# Altium footprint library bms.PcbLib: 20 footprints (part 2 of 2)
Each footprint in its own frame and in the unit in brackets; x right, y up, seen from the top. Pads: shape width x height; smd on the part's side, far side on the other; paste and mask are expansions set on the pad; w line width, h text height; cw(c..) or ccw(c..) is an arc to the next point about the centre after c.
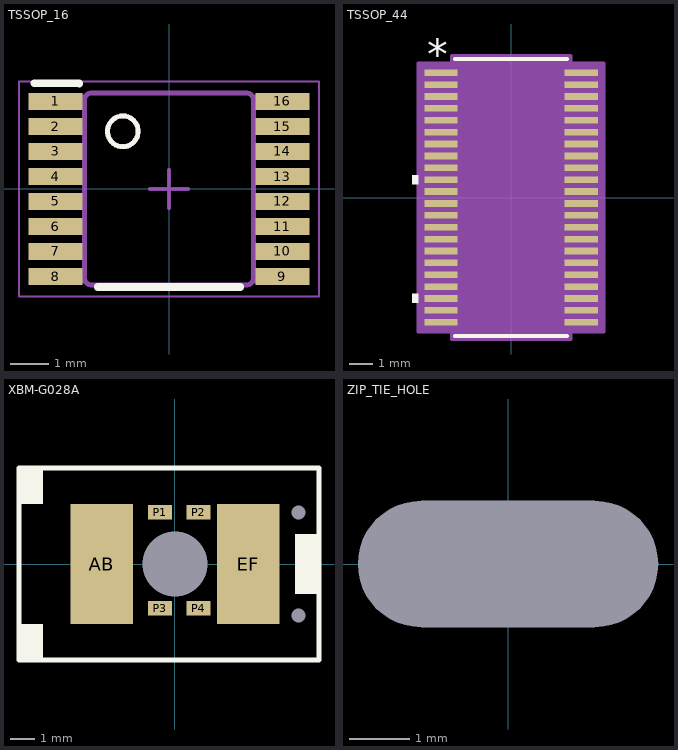
[diagram p1: the footprints below, top view; thin cyan lines are the x and y axes]

## TSSOP_16 [mm]
pads (16):
  rect 1.4x0.45 smd mask+0.051: 1(-2.95,2.275) 2(-2.95,1.625) 3(-2.95,0.975) 4(-2.95,0.325) 5(-2.95,-0.325) 6(-2.95,-0.975) 7(-2.95,-1.625) 8(-2.95,-2.275) 9(2.95,-2.275) 10(2.95,-1.625) 11(2.95,-0.975) 12(2.95,-0.325) 13(2.95,0.325) 14(2.95,0.975) 15(2.95,1.625) 16(2.95,2.275)
Top Overlay:
  lines w0.127: -1.2,1.1 ccw(c-1.2,1.5) -1.2,1.9 ccw(c-1.2,1.5) -1.2,1.1
  lines w0.2: -3.5,2.75 -2.337,2.743 ; -1.85,-2.55 1.85,-2.55
Mechanical 13:
  drawing of 202 lines, arcs and shapes, not listed
Mechanical 15:
  lines w0.05: -3.9,-2.8 3.9,-2.8 3.9,2.8 -3.9,2.8 -3.9,-2.8
  lines w0.1: -0.5,0 0.5,0 ; 0,-0.5 0,0.5
3D body: height 0.25, standoff 0, extent 0,0 0.254,0.254
3D body "PW0016A.stp": height 1.13, standoff 0, extent -3.2,-2.5 3.2,2.5

## TSSOP_44 [mm]
pads (44):
  rect 1.404x0.279 smd mask+0.051: 1(-2.95,5.25) 2(-2.95,4.75) 3(-2.95,4.25) 4(-2.95,3.75) 5(-2.95,3.25) 6(-2.95,2.75) 7(-2.95,2.25) 8(-2.95,1.75) 9(-2.95,1.25) 10(-2.95,0.75) 11(-2.95,0.25) 12(-2.95,-0.25) 13(-2.95,-0.75) 14(-2.95,-1.25) 15(-2.95,-1.75) 16(-2.95,-2.25) 17(-2.95,-2.75) 18(-2.95,-3.25) 19(-2.95,-3.75) 20(-2.95,-4.25) 21(-2.95,-4.75) 22(-2.95,-5.25) 23(2.95,-5.25) 24(2.95,-4.75) 25(2.95,-4.25) 26(2.95,-3.75) 27(2.95,-3.25) 28(2.95,-2.75) 29(2.95,-2.25) 30(2.95,-1.75) 31(2.95,-1.25) 32(2.95,-0.75) 33(2.95,-0.25) 34(2.95,0.25) 35(2.95,0.75) 36(2.95,1.25) 37(2.95,1.75) 38(2.95,2.25) 39(2.95,2.75) 40(2.95,3.25) 41(2.95,3.75) 42(2.95,4.25) 43(2.95,4.75) 44(2.95,5.25)
Top Overlay:
  region: -3.906,0.94 -4.16,0.94 -4.16,0.559 -3.906,0.559
  region: -3.906,-4.06 -4.16,-4.06 -4.16,-4.441 -3.906,-4.441
  lines w0.152: -2.375,-5.829 2.375,-5.829 ; -2.375,5.829 2.375,5.829
  text "*" at -3.521,5.402 h1.27
Mechanical 13:
  drawing of 181 lines, arcs and shapes, not listed
  text "*" at -2.184,4.356 h1.27
Mechanical 15:
  region: -2.502,-5.644 -3.906,-5.644 -3.906,5.644 -2.502,5.644 -2.502,5.956 2.502,5.956 2.502,5.644 3.906,5.644 3.906,-5.644 2.502,-5.644 2.502,-5.956 -2.502,-5.956
  lines w0.152: -3.906,-5.644 -3.906,5.644 -2.502,5.644 -2.502,5.956 2.502,5.956 2.502,5.644 3.906,5.644 3.906,-5.644 2.502,-5.644 2.502,-5.956 -2.502,-5.956 -2.502,-5.644 -3.906,-5.644
3D body: height 0.25, standoff 0, extent 0,0 0.254,0.254
3D body "DBT44_TEX.step": height 1.2, standoff 0, extent -3.302,-5.702 3.302,5.702

## XBM-G028A [mm]
pads (9):
  rect 2.6x5 smd mask+0.06: AB(-3.048,0) EF(3.048,0)
  rect 1x0.6 smd mask+0.05: P1(-0.62,2.15) P2(0.98,2.15) P3(-0.62,-1.85) P4(0.98,-1.85)
  round 0 hole 2.7 unplated mask+0: P8(0,0)
  round 0 hole 0.58 unplated mask+0: P11(5.143,-2.145) P11(5.143,2.145)
Top Overlay:
  rectangle: 5,-1.25 6,1.25
  rectangle: -6.5,2.5 -5.5,4
  rectangle: -6.5,-4 -5.5,-2.5
  lines w0.2: -6.5,-4 6,-4 6,4 -6.5,4 -6.5,-4

## ZIP_TIE_HOLE [mm]
pads (1):
  round 0 hole 2.1 slot 5 at 0 deg unplated: P15(0,0)